# Altium integrated library Communication.IntLib: 6 symbols
Pins are listed as number, name and electrical type; pins without a type are passive.

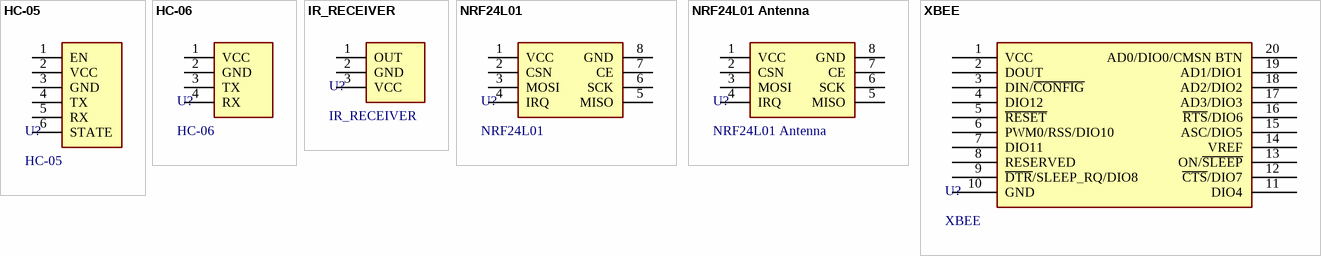
[diagram p0: symbols HC-05 to XBEE]

## HC-05
designator U?
BLUETOOTH MODULE
footprint HC-05 (BLUETOOTH MODULE)
pins: 1 EN, 2 VCC, 3 GND, 4 TX, 5 RX, 6 STATE

## HC-06
designator U?
BLUETOOTH MODULE
footprint HC-06 (BLUETOOTH MODULE)
pins: 1 VCC, 2 GND, 3 TX, 4 RX

## IR_RECEIVER
designator U?
INFRARED RECEIVER SENSOR; Digikey PN: 1528-157-ND; Mouser PN: 782-TSMP58138
footprint IR_Receiver (INFRARED RECEIVER SENSOR)
pins: 1 OUT, 2 GND, 3 VCC

## NRF24L01
designator U?
MÓDULO TRANSCEPTOR RF WIRELESS 2.4GHZ
footprint NRF24L01 (MÓDULO TRANSCEPTOR RF WIRELESS 2.4GHZ)
pins: 1 VCC, 2 CSN, 3 MOSI, 4 IRQ, 5 MISO, 6 SCK, 7 CE, 8 GND

## NRF24L01 Antenna
designator U?
MÓDULO TRANSCEPTOR RF WIRELESS 2.4GHZ W/ ANTENNA
footprint NRF24L01 Antenna (MÓDULO TRANSCEPTOR RF WIRELESS 2.4GHZ W/ ANTENNA)
pins: 1 VCC, 2 CSN, 3 MOSI, 4 IRQ, 5 MISO, 6 SCK, 7 CE, 8 GND

## XBEE
designator U?
RF TRANSCEIVER MODULE 2.4GHZ; Digikey PN: 602-1891-ND; Mouser PN: 888-XB24CAPIT-001
footprint XBEE (RF TRANSCEIVER MODULE 2.4GHZ)
pins: 1 VCC, 2 DOUT, 3 DIN/~{CONFIG}, 4 DIO12, 5 ~{RESET}, 6 PWM0/RSS/DIO10, 7 DIO11, 8 RESERVED, 9 ~{DTR}/SLEEP_RQ/DIO8, 10 GND, 11 DIO4, 12 ~{CTS}/DIO7, 13 ON/~{SLEEP}, 14 VREF, 15 ASC/DIO5, 16 ~{RTS}/DIO6, 17 AD3/DIO3, 18 AD2/DIO2, 19 AD1/DIO1, 20 AD0/DIO0/CMSN BTN